# Altium footprint library Senior_PCB_Lib.PcbLib: 29 footprints (part 1 of 2)
Each footprint in its own frame and in the unit in brackets; x right, y up, seen from the top. Pads: shape width x height; smd on the part's side, far side on the other; paste and mask are expansions set on the pad; w line width, h text height; cw(c..) or ccw(c..) is an arc to the next point about the centre after c.
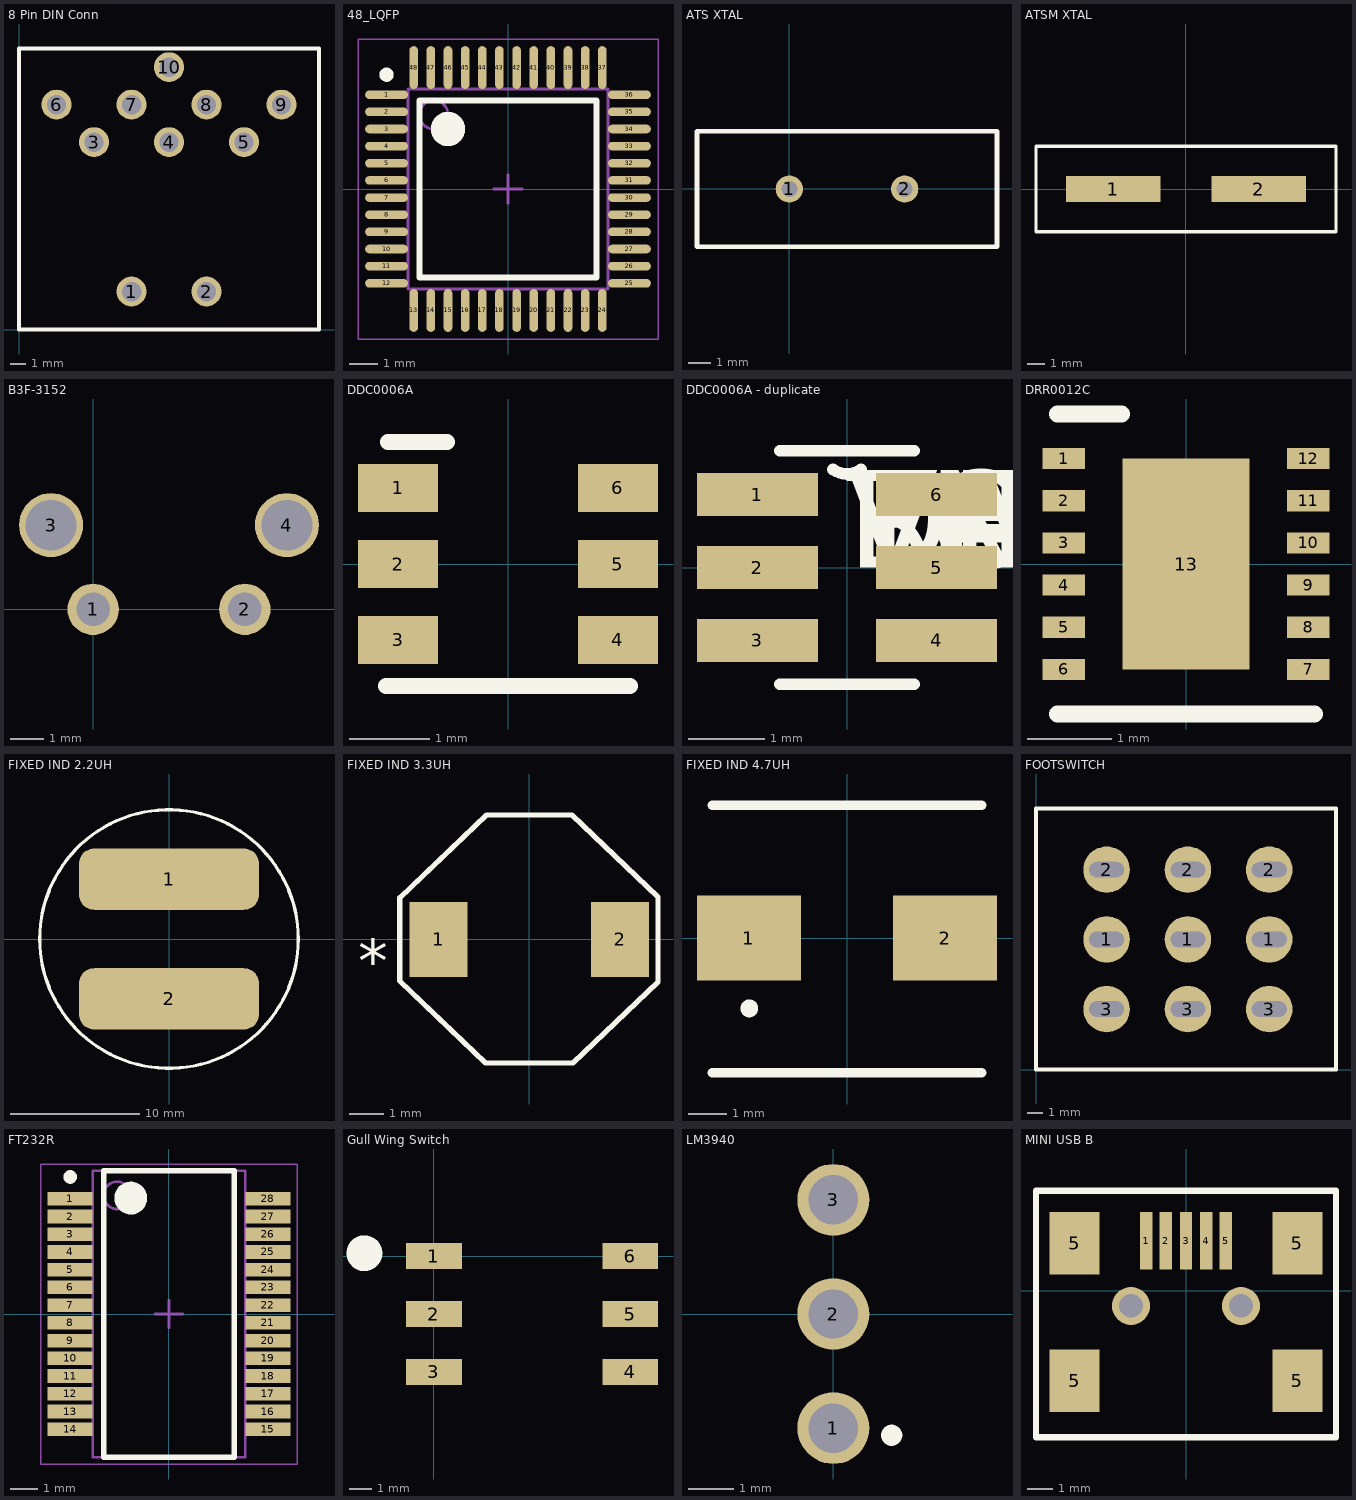
[diagram p0: the footprints below, top view; thin cyan lines are the x and y axes]

## 8 Pin DIN Conn [mm]
pads (10):
  round 2 hole 1.3: 1(7.5,2.54) 2(12.5,2.54) 3(5,12.5) 4(10,12.5) 5(15,12.5) 6(2.5,15) 7(7.5,15) 8(12.5,15) 9(17.5,15) 10(10,17.5)
Top Overlay:
  lines w0.254: 0,0 20,0 20,18.75 0,18.75 0,0

## 48_LQFP [mm] "TSQFP, 48-Leads, Body 7.00x7.00mm, Pitch 0.60mm, IPC Medium Density"
height 1.6
pads (48):
  oval 1.5x0.3 smd: 1(-4.25,3.3) 2(-4.25,2.7) 3(-4.25,2.1) 4(-4.25,1.5) 5(-4.25,0.9) 6(-4.25,0.3) 7(-4.25,-0.3) 8(-4.25,-0.9) 9(-4.25,-1.5) 10(-4.25,-2.1) 11(-4.25,-2.7) 12(-4.25,-3.3) 25(4.25,-3.3) 26(4.25,-2.7) 27(4.25,-2.1) 28(4.25,-1.5) 29(4.25,-0.9) 30(4.25,-0.3) 31(4.25,0.3) 32(4.25,0.9) 33(4.25,1.5) 34(4.25,2.1) 35(4.25,2.7) 36(4.25,3.3)
  oval 0.3x1.5 smd: 13(-3.3,-4.25) 14(-2.7,-4.25) 15(-2.1,-4.25) 16(-1.5,-4.25) 17(-0.9,-4.25) 18(-0.3,-4.25) 19(0.3,-4.25) 20(0.9,-4.25) 21(1.5,-4.25) 22(2.1,-4.25) 23(2.7,-4.25) 24(3.3,-4.25) 37(3.3,4.25) 38(2.7,4.25) 39(2.1,4.25) 40(1.5,4.25) 41(0.9,4.25) 42(0.3,4.25) 43(-0.3,4.25) 44(-0.9,4.25) 45(-1.5,4.25) 46(-2.1,4.25) 47(-2.7,4.25) 48(-3.3,4.25)
Top Overlay:
  circle w0.25: c-4.25,4 r0.125
  circle w0.6: c-2.1,2.1 r0.3
  lines w0.2: -3.1,-3.1 -3.1,3.1 3.1,3.1 3.1,-3.1 -3.1,-3.1
Mechanical 13:
  circle w0.1: c-2.6,2.6 r0.5
  lines w0.1: -3.5,-3.5 -3.5,3.5 3.5,3.5 3.5,-3.5 -3.5,-3.5
Mechanical 15:
  lines w0.05: -5.25,-5.25 -5.25,5.25 5.25,5.25 5.25,-5.25 -5.25,-5.25
  lines w0.1: -0.5,0 0.5,0 ; 0,-0.5 0,0.5
3D body: height 1.6, standoff 0.15, extent -3.5,-3.5 3.5,3.5

## ATS XTAL [mm]
pads (2):
  round 1.2 hole 0.7: 1(0,0) 2(5.08,0)
Top Overlay:
  lines w0.203: -4.064,-2.54 -4.064,-2.078 -4.064,2.54 9.144,2.54 9.144,-2.54 -4.064,-2.54

## ATSM XTAL [mm]
height 4.3
pads (2):
  rect 5.5x1.5 smd: 1(-4.25,0) 2(4.25,0)
Top Overlay:
  lines w0.2: -8.75,-2.5 8.75,-2.5 8.75,2.5 -8.75,2.5 -8.75,0 -8.75,-2.5

## B3F-3152 [mm]
pads (4):
  round 1.524 hole 1: 1(0,0) 2(4.5,0)
  round 1.9 hole 1.5: 3(-1.25,2.5) 4(5.75,2.5)

## DDC0006A [mm]
pads (6):
  rect 1x0.6 smd paste+0 mask+0.051: 1(-1.375,0.95) 2(-1.375,0) 3(-1.375,-0.95) 4(1.375,-0.95) 5(1.375,0) 6(1.375,0.95)
Top Overlay:
  lines w0.2: -1.524,-1.524 1.524,-1.524 ; -1.5,1.524 -0.762,1.524
3D body: height 0.25, standoff 0, extent -1.5,-1.5 1.5,1.5

## DDC0006A - duplicate [mil]
pads (6):
  rect 62x22 smd paste-4 mask+2: 1(-46,37.4) 2(-46,0) 3(-46,-37.4) 4(46,-37.4) 5(46,0) 6(46,37.4)
Top Overlay:
  lines w6: -34.5,-60 34.5,-60 ; -34.5,60 34.5,60 ; -7.14,50.35 ccw(c0,60) 7.14,50.35
  text "TOL" at 0,0 h50
  text "VAL" at 0,0 h50
  text "DEV" at 0,0 h50
  text "PN" at 0,0 h50
  text "DEV" at 0,0 h50
  text "RefDes" at 0,0 h50
3D body: height 10, standoff 0, extent 0,0 10,10

## DRR0012C [mm]
pads (13):
  rect 0.5x0.25 smd paste+0 mask+0.051: 1(-1.45,1.25) 2(-1.45,0.75) 3(-1.45,0.25) 4(-1.45,-0.25) 5(-1.45,-0.75) 6(-1.45,-1.25) 7(1.45,-1.25) 8(1.45,-0.75) 9(1.45,-0.25) 10(1.45,0.25) 11(1.45,0.75) 12(1.45,1.25)
  rect 1.5x2.5 smd paste-1.237 mask+0.051: 13(0,0)
Top Overlay:
  lines w0.2: -1.524,-1.778 1.524,-1.778 ; -1.524,1.778 -0.762,1.778
3D body: height 0.25, standoff 0, extent -1.248,-1.504 1.25,1.502

## FIXED IND 2.2UH [mm]
pads (2):
  rrect50% 14x4.75 smd: 1(0,4.64) 2(0,-4.64)
Top Overlay:
  circle w0.254: c0,0 r10.034

## FIXED IND 3.3UH [mm]
pads (2):
  rect 1.7x2.2 smd paste+0 mask+0: 1(-2.65,0) 2(2.65,0)
Top Overlay:
  lines w0.152: -3.785,-1.216 -3.785,1.216 -1.249,3.632 1.249,3.632 3.759,1.24 3.759,-1.24 1.276,-3.607 -1.276,-3.607 -3.785,-1.216
  text "*" at -5.004,-1.27 h1.27
3D body: height 0.25, standoff 0, extent 0,0 0.254,0.254

## FIXED IND 4.7UH [mm]
pads (2):
  rect 2.7x2.2 smd: 1(-2.55,0) 2(2.55,0)
Top Overlay:
  circle w0.254: c-2.54,-1.829 r0.105
  lines w0.254: -3.5,-3.5 3.5,-3.5 ; -3.5,3.45 3.5,3.45

## FOOTSWITCH [mil] "3PDT Latching  Solder Lug  Footswitch"
height 1.7
pads (9):
  round 120 hole 40 slot 90 at 0 deg: 1(182.5,336.5) 1(392.5,336.5) 1(602.5,336.5) 2(182.5,516.5) 2(392.5,516.5) 2(602.5,516.5) 3(182.5,156.5) 3(392.5,156.5) 3(602.5,156.5)
Top Overlay:
  lines w10: 0,0 775,0 775,675 196.85,675 0,675 0,0

## FT232R [mm] "FTDI FT232R USB to UART IC"
height 1.75
pads (28):
  rect 1.65x0.5 smd: 1(-3.625,4.225) 2(-3.625,3.575) 3(-3.625,2.925) 4(-3.625,2.275) 5(-3.625,1.625) 6(-3.625,0.975) 7(-3.625,0.325) 8(-3.625,-0.325) 9(-3.625,-0.975) 10(-3.625,-1.625) 11(-3.625,-2.275) 12(-3.625,-2.925) 13(-3.625,-3.575) 14(-3.625,-4.225) 15(3.625,-4.225) 16(3.625,-3.575) 17(3.625,-2.925) 18(3.625,-2.275) 19(3.625,-1.625) 20(3.625,-0.975) 21(3.625,-0.325) 22(3.625,0.325) 23(3.625,0.975) 24(3.625,1.625) 25(3.625,2.275) 26(3.625,2.925) 27(3.625,3.575) 28(3.625,4.225)
Top Overlay:
  circle w0.6: c-1.4,4.25 r0.3
  circle w0.25: c-3.625,5.025 r0.125
  lines w0.2: -2.4,-5.25 2.4,-5.25 2.4,5.25 -2.4,5.25 -2.4,-5.25
Mechanical 13:
  circle w0.1: c-1.9,4.35 r0.5
  lines w0.1: -2.8,-5.25 2.8,-5.25 2.8,5.25 -2.8,5.25 -2.8,-5.25
Mechanical 15:
  lines w0.05: -4.7,-5.5 4.7,-5.5 4.7,5.5 -4.7,5.5 -4.7,-5.5
  lines w0.1: -0.5,0 0.5,0 ; 0,-0.5 0,0.5
3D body "SOP65P780X175-28N.step": height 1.75, standoff 0, extent -3.9,-5.25 3.9,5.25

## Gull Wing Switch [mm]
pads (6):
  rect 2.44x1.13 smd: 1(0,0) 2(0,-2.54) 3(0,-5.08) 4(8.61,-5.08) 5(8.61,-2.54) 6(8.61,0)
Top Overlay:
  circle w1: c-3.048,0.127 r0.284

## LM3940 [mm]
pads (3):
  round 1.6 hole 1.1: 1(0,-2.54) 2(0,0) 3(0,2.54)
Top Overlay:
  circle w0.254: c1.3,-2.7 r0.108

## MINI USB B [mm] "Sparkfun Mini-USB B SMD Connector"
height 4
pads (11):
  rect 0.5x2.3 smd: 1(-1.6,2) 2(-0.8,2) 3(0,2) 4(0.8,2) 5(1.6,2)
  rect 2x2.5 smd: 5(-4.45,-3.6) 5(-4.45,1.9) 5(4.45,-3.6) 5(4.45,1.9)
  round 1.524 hole 0.95: ""(-2.2,-0.6) ""(2.2,-0.6)
Top Overlay:
  lines w0.254: -6,-5.85 -6,4 6,4 6,-5.85 5.5,-5.85 -5.5,-5.85 -6,-5.85